# Altium footprint library thermostat.PcbLib: 97 footprints (part 7 of 7)
Each footprint in its own frame and in the unit in brackets; x right, y up, seen from the top. Pads: shape width x height; smd on the part's side, far side on the other; paste and mask are expansions set on the pad; w line width, h text height; cw(c..) or ccw(c..) is an arc to the next point about the centre after c.
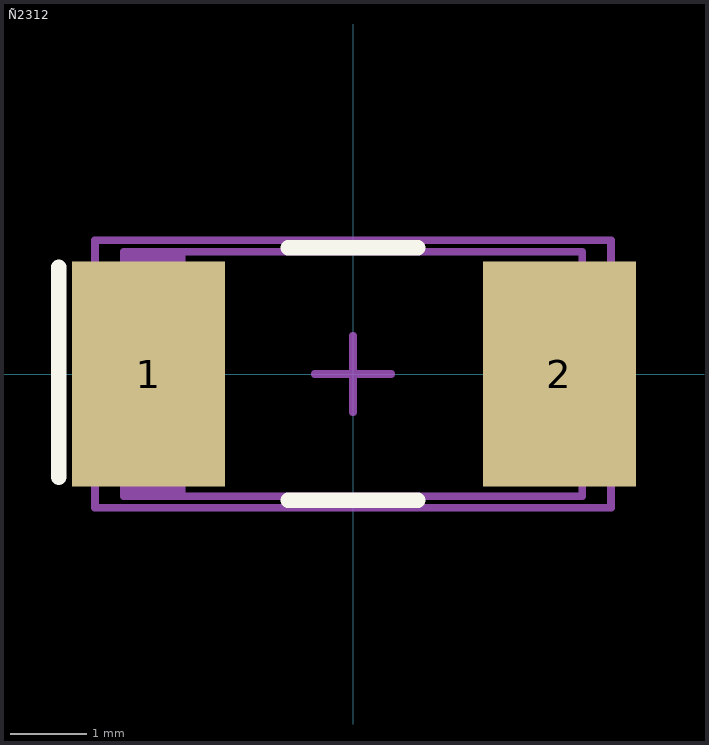
[diagram p6: the footprint, top view; thin cyan lines are the x and y axes]

## Ñ2312 [mm] "CAP TANT 68UF 6.3V 10% 2312"
height 1.7
pads (2):
  rect 2x2.95 smd: 1(-2.675,0) 2(2.7,0)
Top Overlay:
  lines w0.2: -3.85,-1.35 -3.85,1.4 ; -0.85,-1.65 0.85,-1.65 ; -0.85,1.65 0.85,1.65
Mechanical 13:
  rectangle: -3,-1.6 -2.193,1.6
  lines w0.1: -3,-1.6 3,-1.6 3,1.6 -3,1.6 -3,-1.6
Mechanical 15:
  lines w0.1: -0.5,0 0.5,0 ; 0,-0.5 0,0.5 ; -3.375,-1.75 3.375,-1.75 3.375,1.75 -3.375,1.75 -3.375,-1.75
3D body: height 1.7, standoff 0, extent -3,-1.6 3,1.6